# Altium schematic symbol library BQ7694204PFBR.SchLib: 1 symbol
Pins are listed as number, name and electrical type; pins without a type are passive.

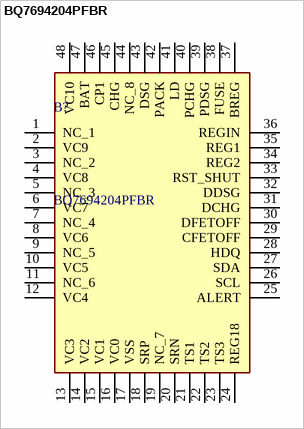
[diagram p0: symbol BQ7694204PFBR]

## BQ7694204PFBR
designator B?
Battery Management 3-series to 10-series multicell battery monitor and protector; Manufacturer_Name: Texas Instruments; Geometry.Height: 1.2mm; Mouser Part Number: 595-BQ7694204PFBR; Mouser Price/Stock: https://www.mouser.co.uk/ProductDetail/Texas-Instruments/BQ7694204PFBR?qs=iLbezkQI%252BsiBKz1%2FTSC4wg%3D%3D; Manufacturer_Part_Number: BQ7694204PFBR; Datasheet Link: https://www.ti.com/lit/gpn/bq76942
footprint QFP50P900X900X120-48N
pins: 1 NC_1, 2 VC9, 3 NC_2, 4 VC8, 5 NC_3, 6 VC7, 7 NC_4, 8 VC6, 9 NC_5, 10 VC5, 11 NC_6, 12 VC4, 13 VC3, 14 VC2, 15 VC1, 16 VC0, 17 VSS, 18 SRP, 19 NC_7, 20 SRN, 21 TS1, 22 TS2, 23 TS3, 24 REG18, 25 ALERT, 26 SCL, 27 SDA, 28 HDQ, 29 CFETOFF, 30 DFETOFF, 31 DCHG, 32 DDSG, 33 RST_SHUT, 34 REG2, 35 REG1, 36 REGIN, 37 BREG, 38 FUSE, 39 PDSG, 40 PCHG, 41 LD, 42 PACK, 43 DSG, 44 NC_8, 45 CHG, 46 CP1, 47 BAT, 48 VC10